# Altium schematic symbol library team6.SCHLIB: 17 symbols
Pins are listed as number, name and electrical type; pins without a type are passive.

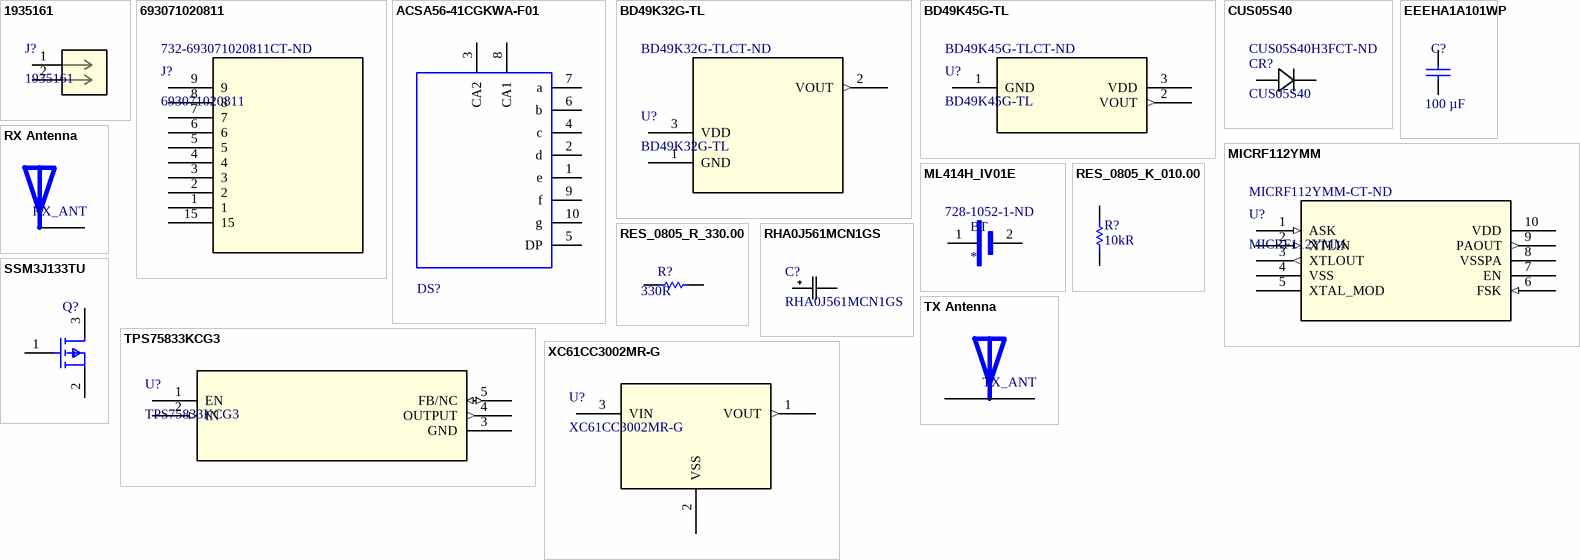
[diagram p0: symbols 1935161 to XC61CC3002MR-G]

## 1935161
designator J?
TERM BLK 2POS SIDE ENTRY 5MM PCB; Mfr_Name: Phoenix Contact; Copyright: Copyright (C) 2022 Ultra Librarian. All rights reserved.; Manufacturer_Part_Number: 1935161; Digi-Key_Part_Number_1: 277-1667-ND; RefDes: RefDes; Type: DEV
footprint CONN_1935161_PXC
pins: 1, 2

## 693071020811
designator J?  Supplier Part Number 1: 732-693071020811CT-ND
SMT MICRO SD CARD CONNECTOR, PUS; Mfr_Name: Wurth Electronics; Copyright: Copyright (C) 2022 Ultra Librarian. All rights reserved.; Manufacturer_Part_Number: 693071020811; Digi-Key_Part_Number_1: 732-693071020811TR-ND; Digi-Key_Part_Number_2: 732-693071020811CT-ND; Digi-Key_Part_Number_3: 732-693071020811DKR-ND; RefDes: RefDes; Type: DEV; Supplier 1: Digi-Key
footprint CONN9_020811_WRE
pins: 1, 2, 3, 4, 5, 6, 7, 8, 9, 15

## ACSA56-41CGKWA-F01
designator DS?  (value not drawn)
DISPLAY 0.56" SGL 574NM GRN SMD; Manufacturer 1: Kingbright; Color: Green; Power Consumption: 75mW; Number of Characters: 1; Element Configuration: Common Anode; Forward Current: 30mA; Forward Voltage: 2.1V; Wavelength: 570nm; Test Current: 20mA; Luminous Intensity: 25mcd; Display Type: Segment; Supplier 1: Digi-Key; Supplier Part Number 1: 754-1033-1-ND; Manufacturer Part Number 1: ACSA56-41CGKWA-F01; RoHS: Yes; Category: LED Displays; Stock 1: 38128; Pricing 1: 1=3.38000, 10=2.25300, 100=1.73360 (USD); Case/Package: SMD/SMT; Min Operating Temperature: -40°C; Max Operating Temperature: 85°C; Package Quantity: 400; Max Power Dissipation: 75mW; Illumination Color: Green; Packaging: Rail/Tube; Operating Supply Voltage: 2.1V; Width: 0.488inch; Height: 0.669inch; RoHS Compliant: Yes; Lead Free: Lead Free; ComponentLink1URL: https://datasheet.ciiva.com/2103/acsa56-41cgkwa-f01-2103794.pdf?src-supplier=Digi-Key; ComponentLink1Description: https://datasheet.ciiva.com/2103/acsa56-41cgkwa-f01-2103794.pdf?src-supplier=Digi-Key; ComponentLink2URL: https://datasheet.ciiva.com/4421/acsa56-41cgkwa-f01-17964-4421697.pdf?src-supplier=Mouser; ComponentLink2Description: https://datasheet.ciiva.com/4421/acsa56-41cgkwa-f01-17964-4421697.pdf?src-supplier=Mouser; ComponentLink3URL: https://datasheet.ciiva.com/16287/acsa56-41cgkwa-f01-16287523.pdf?src-supplier=Future+Electronics; ComponentLink3Description: https://datasheet.ciiva.com/16287/acsa56-41cgkwa-f01-16287523.pdf?src-supplier=Future+Electronics; ComponentLink4URL: https://datasheet.ciiva.com/2103/acsa56-41cgkwa-f01-2103795.pdf?src-supplier=Digi-Key; ComponentLink4Description: https://datasheet.ciiva.com/2103/acsa56-41cgkwa-f01-2103795.pdf?src-supplier=Digi-Key; ComponentLink5URL: https://datasheet.ciiva.com/2103/acsa56-41cgkwa-f01-2103796.pdf?src-supplier=Digi-Key; ComponentLink5Description: https://datasheet.ciiva.com/2103/acsa56-41cgkwa-f01-2103796.pdf?src-supplier=Digi-Key
footprint ACSA56-41CGKWA-F01
pins: 1 e, 2 d, 3 CA2, 4 c, 5 DP, 6 b, 7 a, 8 CA1, 9 f, 10 g

## BD49K32G-TL
designator U?  Supplier Part Number 1: BD49K32G-TLCT-ND
IC SUPERVISOR 1 CHANNEL 3SSOP; Mfr_Name: ROHM Semiconductor; Copyright: Copyright (C) 2022 Ultra Librarian. All rights reserved.; Manufacturer_Part_Number: BD49K32G-TL; Digi-Key_Part_Number_1: BD49K32G-TLTR-ND; Digi-Key_Part_Number_2: BD49K32G-TLCT-ND; Digi-Key_Part_Number_3: BD49K32G-TLDKR-ND; RefDes: RefDes; Type: DEV; Supplier 1: Digi-Key
footprint SSOP3_ROM
pins: 1 GND, 2 VOUT (out), 3 VDD (power)

## BD49K45G-TL
designator U?  Supplier Part Number 1: BD49K45G-TLCT-ND
IC SUPERVISOR 1 CHANNEL 3SSOP; Mfr_Name: ROHM Semiconductor; Copyright: Copyright (C) 2022 Ultra Librarian. All rights reserved.; Manufacturer_Part_Number: BD49K45G-TL; Digi-Key_Part_Number_1: BD49K45G-TLTR-ND; Digi-Key_Part_Number_2: BD49K45G-TLCT-ND; Digi-Key_Part_Number_3: BD49K45G-TLDKR-ND; RefDes: RefDes; Type: DEV; Supplier 1: Digi-Key
footprint SSOP3_ROM
pins: 1 GND, 2 VOUT (out), 3 VDD (power)

## CUS05S40
designator CR?  Supplier Part Number 1: CUS05S40H3FCT-ND
DIODE SCHOTTKY 40V 500MA USC; Mfr_Name: Toshiba Electronic Devices & Storage Corp.; Type: DEV; Copyright: Copyright (C) 2022 Ultra Librarian. All rights reserved.; Manufacturer_Part_Number: CUS05S40; Digi-Key_Part_Number_1: CUS05S40H3FCT-ND; Digi-Key_Part_Number_2: CUS05S40H3FDKR-ND; Digi-Key_Part_Number_3: CUS05S40H3FTR-ND; RefDes: RefDes; Supplier 1: Digi-Key
footprint USC_TOS
pins: 1 cathode, 2 anode

## EEEHA1A101WP
designator C?  Capacitance: 100 µF  (hidden comment: *)
100ÂµF 10V Aluminum Electrolytic Capacitors Radial, Can - SMD 1000 Hrs @ 105Â°C; MF: Panasonic; MP: EEE-HA1A101WP; SnapEDA_Link: https://www.snapeda.com/parts/EEE-HA1A101WP/Panasonic/view-part/?ref=snap; Price: None; Package: RADIAL-2 Panasonic; Value: *; Check_prices: https://www.snapeda.com/parts/EEE-HA1A101WP/Panasonic/view-part/?ref=eda; Purchase-URL: https://pricing.snapeda.com/search/part/EEE-HA1A101WP/?ref=eda; Availability: In Stock; Supplier 1: Digi-Key; Supplier Part Number 1: PCE4169CT-ND
footprint CAP_EEEHA1A101WP
pins: 1, 2

## MICRF112YMM
designator U?  Supplier Part Number 1: MICRF112YMM-CT-ND
RF TX IC ASK 300-450MHZ 10TFSOP; Mfr_Name: Microchip; Copyright: Copyright (C) 2022 Ultra Librarian. All rights reserved.; Manufacturer_Part_Number: MICRF112YMM; RefDes: RefDes; Type: DEV; Supplier 1: Digi-Key
footprint MSOP10_MC_MCH
pins: 1 ASK (in), 2 XTLIN (in), 3 XTLOUT (out), 4 VSS (power), 5 XTAL_MOD, 6 FSK (in), 7 EN, 8 VSSPA (power), 9 PAOUT (out), 10 VDD (power)

## ML414H_IV01E
designator BT  Supplier Part Number 1: 728-1052-1-ND
Coin, 4.8mm 3V Lithium Battery Rechargeable _Secondary_ 1mAh; MP: ML414H IV01E; MF: Seiko Instruments; Package: SOT-89 Seiko; SnapEDA_Link: https://www.snapeda.com/parts/ML414H%20IV01E/Seiko%20Instruments/view-part/1015565/?ref=snap; Availability: Unavailable; Price: None; Value: *; Supplier 1: Digi-Key
footprint SEIKO_ML414H_IV01E
pins: 1 POS, 2 NEG

## RES_0805_K_010.00
designator R?  Resistance: 10kR  (hidden comment: RES_0805_K_010.00)
RES SMD 10K OHM 1% 1/8W 0805; Manufacturer 1: Yageo; Manufacturer Part Number 1: RC0805FR-0710KL; Temperature Coefficient: 100ppm/°C; Power Rating: 125mW; Voltage Rating: 150V; Supplier 1: Digi-Key; Supplier Part Number 1: 311-10.0KCRCT-ND; Stock 1: 7562122; Pricing 1: 1=0.10000, 10=0.04200, 100=0.01690, 1000=0.00759, 2500=0.00659 (USD); RoHS: Yes; Case/Package: 0805; Case Code (Imperial): 0805; Case Code (Metric): 2012; Min Operating Temperature: -55°C; Max Operating Temperature: 155°C; Tolerance: 1%; Packaging: Tape and Reel; Features: Moisture Resistant; Termination: SMD/SMT; Number of Terminations: 2; Military Standard: Not; Max Power Dissipation: 125mW; Package Quantity: 1; Length: 2mm; Height: 0.024inch; Width: 0.049inch; Depth: 1.25mm; Lead Free: Lead Free; REACH SVHC: Unknown; ComponentLink1URL: https://datasheet.ciiva.com/11808/0900766b8106beab-11808151.pdf?src-supplier=RSComponents; ComponentLink1Description: https://datasheet.ciiva.com/11808/0900766b8106beab-11808151.pdf?src-supplier=RSComponents; ComponentLink2URL: https://datasheet.ciiva.com/12669/rc0805-12669688.pdf?src-supplier=Mouser; ComponentLink2Description: https://datasheet.ciiva.com/12669/rc0805-12669688.pdf?src-supplier=Mouser; ComponentLink3URL: https://datasheet.ciiva.com/46447/444164-46447563.pdf?src-supplier=Element14; ComponentLink3Description: https://datasheet.ciiva.com/46447/444164-46447563.pdf?src-supplier=Element14; ComponentLink4URL: https://datasheet.ciiva.com/2456/pyu-r-int-thick-7-2456972.pdf?src-supplier=Digi-Key; ComponentLink4Description: https://datasheet.ciiva.com/2456/pyu-r-int-thick-7-2456972.pdf?src-supplier=Digi-Key; ComponentLink5URL: https://datasheet.ciiva.com/2456/pyu-r-int-thick-7-2456973.pdf?src-supplier=Digi-Key; ComponentLink5Description: https://datasheet.ciiva.com/2456/pyu-r-int-thick-7-2456973.pdf?src-supplier=Digi-Key; ComponentLink6URL: https://datasheet.ciiva.com/2456/pyu-r-int-thick-7-2456974.pdf?src-supplier=Digi-Key; ComponentLink6Description: https://datasheet.ciiva.com/2456/pyu-r-int-thick-7-2456974.pdf?src-supplier=Digi-Key; ComponentLink7URL: https://datasheet.ciiva.com/16747/rc0805-16747087.pdf?src-supplier=Future+Electronics; ComponentLink7Description: https://datasheet.ciiva.com/16747/rc0805-16747087.pdf?src-supplier=Future+Electronics; Category: Chip SMD Resistors; Size Code: 0805; Resistor Type: Thick Film; Series: RC; Construction: Rectangular; Resistance Tolerance: 1%; Technology: THICK FILM; RoHS Compliant: Yes
footprint RES_0805 (Chip Resistor, Body 2.0x1.3mm, IPC Medium Density)
pins: 1, 2

## RES_0805_R_330.00
designator R?, comment Resistance: 330R  (hidden comment: 330)
RES 330 OHM 1% 1/8W 0805; Manufacturer 1: Stackpole Electronics; Manufacturer Part Number 1: RMCF0805FT330R; Temperature Coefficient: 100ppm/°C; Max Power Dissipation: 125mW; Features: Automotive AEC-Q200; Number of Terminations: 2; RoHS: Yes; Packaging: Tape and Reel; Tolerance: 1%; Category: Chip SMD Resistors; Supplier 1: Digi-Key; Supplier Part Number 1: RMCF0805FT330RCT-ND; Stock 1: 205996; Pricing 1: 1=0.10000, 10=0.02700, 100=0.01090, 1000=0.00488, 2500=0.00423 (USD); Mount: Surface Mount; Case/Package: 0805; Case Code (Metric): 2012; Case Code (Imperial): 0805; Contact Plating: Tin,Matte; Min Operating Temperature: -55°C; Max Operating Temperature: 155°C; Resistor Type: Thick Film; Series: RMCF; Construction: Rectangular; Length: 0.079inch; Width: 0.049inch; Height: 0.026inch; Depth: 1.25mm; Radiation Hardening: No; Military Standard: Not; Lead Free: Lead Free; RoHS Compliant: Yes; ComponentLink1URL: http://components.arrow.com/part/dataview/40963487S9848862N1174?src-supplier=Arrow+Electronics; ComponentLink1Description: http://components.arrow.com/part/dataview/40963487S9848862N1174?src-supplier=Arrow+Electronics; ComponentLink2URL: https://www.seielect.com/catalog/SEI-RMCF_RMCP.pdf?src-supplier=Avnet; ComponentLink2Description: https://www.seielect.com/catalog/SEI-RMCF_RMCP.pdf?src-supplier=Avnet; ComponentLink3URL: https://www.seielect.com/Catalog/SEI-RMCF_RMCP.pdf?src-supplier=Digi-Key; ComponentLink3Description: https://www.seielect.com/Catalog/SEI-RMCF_RMCP.pdf?src-supplier=Digi-Key; ComponentLink4URL: https://www.seielect.com/catalog/SEI-Packaging.pdf?src-supplier=Digi-Key; ComponentLink4Description: https://www.seielect.com/catalog/SEI-Packaging.pdf?src-supplier=Digi-Key; ComponentLink5URL: https://www.verical.com/server-webapp/html/getDatasheet?partID=559884&src-supplier=Verical; ComponentLink5Description: https://www.verical.com/server-webapp/html/getDatasheet?partID=559884&src-supplier=Verical
footprint RES_0805 (Chip Resistor, Body 2.0x1.3mm, IPC Medium Density)
pins: 1, 2

## RHA0J561MCN1GS
designator C?
CAP ALUM POLY 560UF 20% 6.3V SMD; Mfr_Name: Nichicon; Type: DEV; Copyright: Copyright (C) 2022 Ultra Librarian. All rights reserved.; Manufacturer_Part_Number: RHA0J561MCN1GS; Digi-Key_Part_Number_1: 493-3772-1-ND; Digi-Key_Part_Number_2: 493-3772-2-ND; Digi-Key_Part_Number_3: 493-3772-6-ND; RefDes: RefDes
footprint CAP_RHA/HS_8X7P7_NCH
pins: 1, 2

## RX Antenna
designator RX_ANT  (value not drawn)
footprint RX_Antenna
pins: 0

## SSM3J133TU
designator Q?  (value not drawn)
MOSFET P-CH 20V 4.4A UFM; Mfr_Name: Toshiba Electronic Devices & Storage Corp.; Type: DEV; Copyright: Copyright (C) 2022 Ultra Librarian. All rights reserved.; Manufacturer_Part_Number: SSM3J133TU; Digi-Key_Part_Number_1: SSM3J133TULFCT-ND; Digi-Key_Part_Number_2: SSM3J133TULFDKR-ND; Digi-Key_Part_Number_3: SSM3J133TULFTR-ND; RefDes: RefDes; Supplier 1: Digi-Key; Supplier Part Number 1: SSM3J133TULFCT-ND
footprint UFM_TOS
pins: 1 Gate, 2 Source, 3 Drain

## TPS75833KCG3
designator U?
IC REG LINEAR 3.3V 3A TO220-5; Mfr_Name: Texas Instruments; Copyright: Copyright (C) 2022 Ultra Librarian. All rights reserved.; Manufacturer_Part_Number: TPS75833KCG3; Digi-Key_Part_Number_1: 296-50653-ND; Digi-Key_Part_Number_2: TPS75833KCG3-ND; RefDes: RefDes; Type: DEV
footprint KC5
pins: 1 EN, 2 IN (in), 3 GND (power), 4 OUTPUT (out), 5 FB/NC (io)

## TX Antenna
designator TX_ANT  (value not drawn)
footprint TX_Antenna
pins: 1, 2

## XC61CC3002MR-G
designator U?
IC SUPERVISOR 1 CHANNEL SOT23; Mfr_Name: Torex Semiconductor; Copyright: Copyright (C) 2022 Ultra Librarian. All rights reserved.; Manufacturer_Part_Number: XC61CC3002MR-G; Digi-Key_Part_Number_1: 893-1029-1-ND; Digi-Key_Part_Number_2: 893-1029-2-ND; Digi-Key_Part_Number_3: 893-1029-6-ND; RefDes: RefDes; Type: DEV; Supplier 1: Digi-Key; Supplier Part Number 1: 893-1029-1-ND
footprint XC61C_SOT-23_TOR
pins: 1 VOUT (out), 2 VSS, 3 VIN (power)